# Altium schematic symbol library XTAL-SMD2520.SchLib: 1 symbol
Pins are listed as number, name and electrical type; pins without a type are passive.

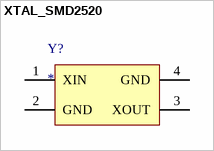
[diagram p0: symbol XTAL_SMD2520]

## XTAL_SMD2520
designator Y?
Crystal SMD 2520
footprint XTAL-SMD2520
pins: 1 XIN, 2 GND, 3 XOUT, 4 GND